# EAGLE library part ADI_ADXRS (library ADI-ADL5324_ADXRS45xx)
GYROSCOPE, 300 DEG/SEC, 14LCC
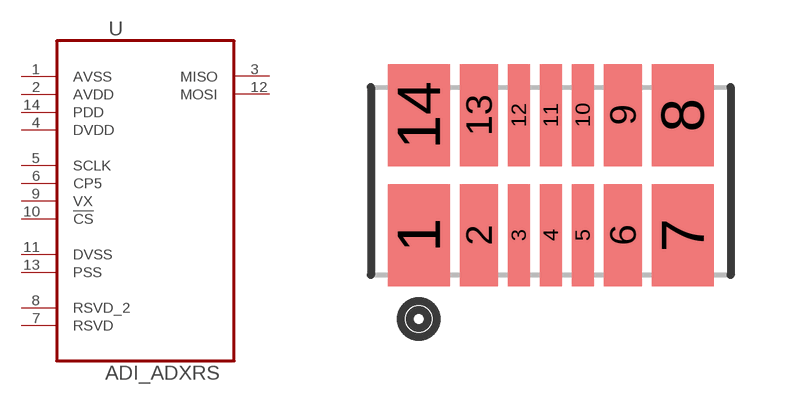
[diagram p0: symbol with the pads of ADI_ADXRS45XXXX; footprint ADI_ADXRS45XXXX]

Designator prefix U

## ADI_ADXRS450BEYZ (MPN: ADXRS450BEYZ; OC_FARNELL: 1897080; OC_NEWARK: 31T9300; PACKAGE: 14LCC; SUPPLIER: ANALOG DEVICES), ADI_ADXRS453BEYZ (MPN: ADXRS453BEYZ; OC_FARNELL: 1897082; OC_NEWARK: 31T9301; PACKAGE: 14LCC; SUPPLIER: ANALOG DEVICES)  [ADI_ADXRS45XXXX]
1  AVSS  pwr
2  AVDD  pwr
3  MISO  out
4  DVDD  pwr
5  SCLK  pas
6  CP5  pas
7  RSVD  pas
8  RSVD_2  pas
9  VX  pas
10  !CS  pas
11  DVSS  pwr
12  MOSI
13  PSS  pas
14  PDD  pwr

## Footprint ADI_ADXRS45XXXX (pad centres in mm)
smd 1.55 x 2.55: 1 -3.3,-1.5; 7 3.3,-1.5; 8 3.3,1.5; 14 -3.3,1.5
smd 0.95 x 2.55: 2 -1.8,-1.5; 6 1.8,-1.5; 9 1.8,1.5; 13 -1.8,1.5
smd 0.55 x 2.55: 3 -0.8,-1.5; 4 0,-1.5; 5 0.8,-1.5; 10 0.8,1.5; 11 0,1.5; 12 -0.8,1.5